# Altium schematic symbol library 500KOHM.SCHLIB: 1 symbol
Pins are listed as number, name and electrical type; pins without a type are passive.

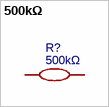
[diagram p0: symbol 500kΩ]

## 500kΩ
designator R?
Manufacturer: Viking(光颉); Manufacturer Part: AR05BTCW5003; nameAlias: Value; Contributor: LCSC; Supplier: LCSC; Supplier Part: C316218; JLCPCB Part Class: Extended Part; spicePre: R; spiceSymbolName: AR05BTCW5003
footprint R0805
pins: 1, 2